# Altium schematic symbol library UserLib.SchLib: 67 symbols
Pins are listed as number, name and electrical type; pins without a type are passive.

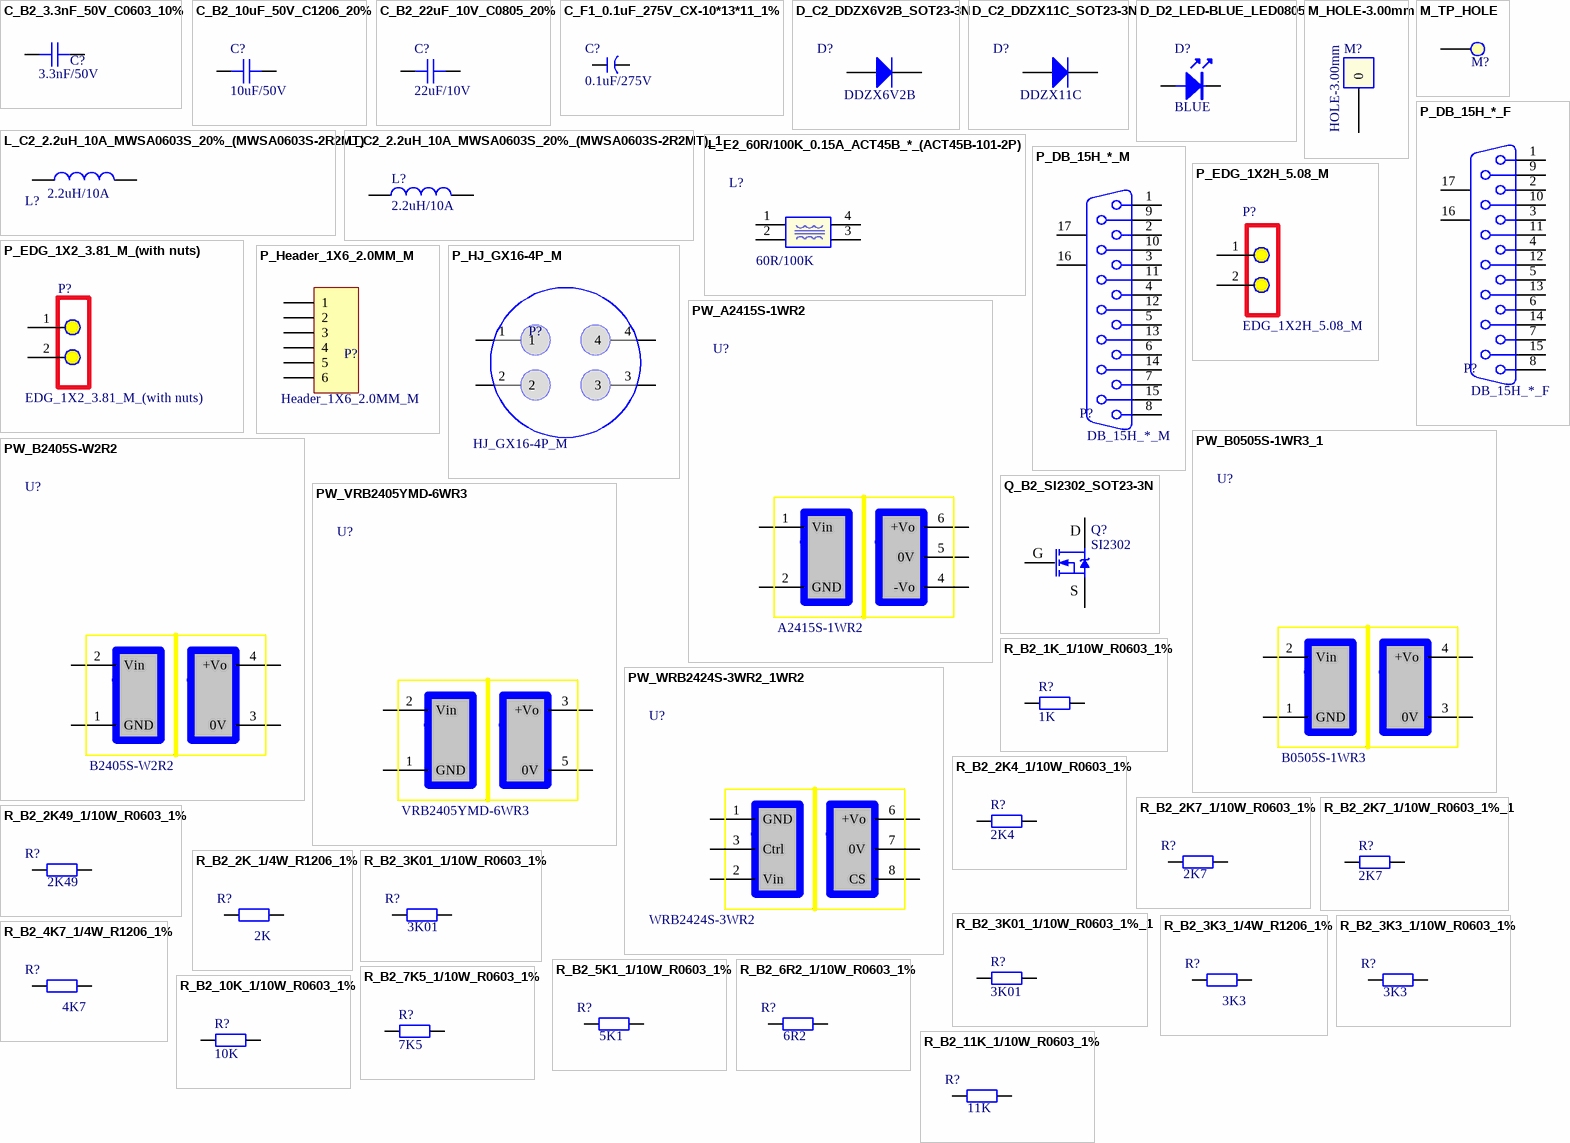
[diagram p0: symbols C_B2_3.3nF_50V_C0603_10% to R_B2_11K_1/10W_R0603_1%]

## C_B2_3.3nF_50V_C0603_10%
designator C?  value 3.3nF/50V  (hidden comment: C_B2_3.3nF_50V_C0603_10%)
footprint C0603 (无极性贴片电容)
pins: 1, 2

## C_B2_10uF_50V_C1206_20%
designator C?  value 10uF/50V  (hidden comment: C_B2_10uF_50V_C1206_20%)
ERP: 01.02.03.005
footprint C1206 (无极性贴片电容)
pins: 1, 2

## C_B2_22uF_10V_C0805_20%
designator C?  value 22uF/10V  (hidden comment: C_B2_22uF_10V_C0805_20%)
X5R; ERP: 01.02.02.037
footprint C0805 (无极性贴片电容)
pins: 1, 2

## C_F1_0.1uF_275V_CX-10*13*11_1%
designator C?  value 0.1uF/275V  (hidden comment: C_F1_0.1uF_275V_CX-10*13*11_1%)
Safety capacitor; ERP: 01.02.06.031
footprint CX-10*13*11 (脚距10mm高13mm厚11mm)
pins: 1 A, 2 K

## D_C2_DDZX6V2B_SOT23-3N
designator D?  value DDZX6V2B  (hidden comment: D_C2_DDZX6V2B_SOT23-3N)
ERP: 01.07.041
footprint SOT23-3N
pins: 1 A, 3 K

## D_C2_DDZX11C_SOT23-3N
designator D?  value DDZX11C  (hidden comment: D_C2_DDZX11C_SOT23-3N)
ERP: 01.07.041A
footprint SOT23-3N
pins: 1 A, 3 K

## D_D2_LED-BLUE_LED0805
designator D?  value BLUE  (hidden comment: D_D2_LED-BLUE_LED0805)
ERP: 01.09.002
footprint LED0805 (1/8W)
pins: 1 A, 2 K

## L_C2_2.2uH_10A_MWSA0603S_20%_(MWSA0603S-2R2MT)
designator L?  value 2.2uH/10A  (hidden comment: L_C2_2.2uH_10A_MWSA0603S_20%_(MWSA0603S-2R2MT))
ERP: 01.03.050
footprint L_MWSA0603S
pins: 1, 2

## L_C2_2.2uH_10A_MWSA0603S_20%_(MWSA0603S-2R2MT)_1
designator L?, comment value 2.2uH/10A  (hidden comment: L_C2_2.2uH_10A_MWSA0603S_20%_(MWSA0603S-2R2MT))
ERP: 01.03.050
footprint L_MWSA0603S
pins: 1, 2

## L_E2_60R/100K_0.15A_ACT45B_*_(ACT45B-101-2P)
designator L?  value 60R/100K  (hidden comment: L_E2_60R/100K_0.15A_ACT45B_*_(ACT45B-101-2P))
ACT45B-101-2P; ERP: 01.03.041
footprint ACT45B
pins: 1, 2, 3, 4

## M_HOLE-3.00mm
designator M?  value HOLE-3.00mm  (hidden comment: M_HOLE-3.00mm)
Note: NC
footprint M3 3.5x6mm (M3螺丝孔，孔3.5mm，焊盘6mm)
pins: 0

## M_TP_HOLE
designator M?  (value not drawn)  (no BOM)
Value: Testpoint; Note: NC
footprint TP-HOLE
pins: 1

## P_DB_15H_*_F
designator P?  value DB_15H_*_F  (hidden comment: P_DB_15H_*_F)
ERP: *
footprint P-DB15-S_A
pins: 1, 2, 3, 4, 5, 6, 7, 8, 9, 10, 11, 12, 13, 14, 15, 16 MH1, 17 MH2

## P_DB_15H_*_M
designator P?  value DB_15H_*_M  (hidden comment: P_DB_15H_*_M)
ERP: *
footprint P-DB15-P_A
pins: 1, 2, 3, 4, 5, 6, 7, 8, 9, 10, 11, 12, 13, 14, 15, 16 MH1, 17 MH2

## P_EDG_1X2_3.81_M_(with nuts)
designator P?  value EDG_1X2_3.81_M_(with nuts)  (hidden comment: P_EDG_1X2_3.81_M_(with nuts))
Straight foot  3.81EDG_(with nuts); ERP: 01.10.276A0
footprint KF2EDGK3.81-2P-(WITH NUTS)
pins: 1, 2

## P_EDG_1X2H_5.08_M
designator P?  value EDG_1X2H_5.08_M  (hidden comment: P_EDG_1X2H_5.08_M)
Bend foot 5.08EDG; ERP: 01.10.199C
footprint KF2EDGK5.08-2P_H
pins: 1, 2

## P_Header_1X6_2.0MM_M
designator P?  value Header_1X6_2.0MM_M  (hidden comment: P_Header_1X6_2.0MM_M)
Header, 6-Pin, 2mm
footprint HDR-1X6-2.0MM
pins: 1, 2, 3, 4, 5, 6

## P_HJ_GX16-4P_M
designator P?  value HJ_GX16-4P_M  (hidden comment: P_HJ_GX16-4P_M)
GX16-4pin; ERP: 01.18.047
footprint HJ_4P (4芯16mm航空插头)
pins: 1, 2, 3, 4

## PW_A2415S-1WR2
designator U?  value A2415S-1WR2  (hidden comment: PW_A2415S-1WR2)
ERP: 01.17.025
footprint A2415S-1WR2
pins: 1 Vin, 2 GND, 4 -Vo, 5 0V, 6 +Vo

## PW_B0505S-1WR3_1
designator U?, comment value B0505S-1WR3  (hidden comment: PW_B0505S-1WR3)
footprint B0505S-1WR3
pins: 1 GND, 2 Vin, 3 0V, 4 +Vo

## PW_B2405S-W2R2
designator U?  value B2405S-W2R2  (hidden comment: PW_B2405S-W2R2)
ERP: 01.17.025A
footprint B2405S-W2R2
pins: 1 GND, 2 Vin, 3 0V, 4 +Vo

## PW_VRB2405YMD-6WR3
designator U?  value VRB2405YMD-6WR3  (hidden comment: PW_VRB2405YMD-6WR3)
ERP: 01.17.025B
footprint VRB2405YMD-6WR3
pins: 1 GND, 2 Vin, 3 +Vo, 5 0V

## PW_WRB2424S-3WR2_1WR2
designator U?  value WRB2424S-3WR2  (hidden comment: PW_WRB2424S-3WR2_1WR2)
footprint WRA2424S-1WR2
pins: 1 GND, 2 Vin, 3 Ctrl, 6 +Vo, 7 0V, 8 CS

## Q_B2_SI2302_SOT23-3N
designator Q?  value SI2302  (hidden comment: Q_B2_SI2302_SOT23-3N)
N-channel FET; ERP: 01.05.01.173
footprint SOT23-3N (3x1.3x1mm(长宽高))
pins: 1 G, 2 S, 3 D

## R_B2_1K_1/10W_R0603_1%
designator R?  value 1K  (hidden comment: R_B2_1K_1/10W_R0603_1%)
ERP: 01.01.02.040
footprint R0603 (Footprint not found)
pins: 1, 2

## R_B2_2K4_1/10W_R0603_1%
designator R?  value 2K4  (hidden comment: R_B2_2K4_1/10W_R0603_1%)
ERP: 01.01.02.086
footprint R0603
pins: 1, 2

## R_B2_2K7_1/10W_R0603_1%
designator R?  value 2K7  (hidden comment: R_B2_2K7_1/10W_R0603_1%)
footprint R0603
pins: 1, 2

## R_B2_2K7_1/10W_R0603_1%_1
designator R?, comment value 2K7  (hidden comment: R_B2_2K7_1/10W_R0603_1%)
ERP: 01.01.02.093
footprint R0603
footprint R0603
pins: 1, 2

## R_B2_2K49_1/10W_R0603_1%
designator R?  value 2K49  (hidden comment: R_B2_2K49_1/10W_R0603_1%)
ERP: 01.01.02.094
footprint R0603
pins: 1, 2

## R_B2_2K_1/4W_R1206_1%
designator R?  value 2K  (hidden comment: R_B2_2K_1/4W_R1206_1%)
footprint R1206
pins: 1, 2

## R_B2_3K01_1/10W_R0603_1%
designator R?  value 3K01  (hidden comment: R_B2_3K01_1/10W_R0603_1%)
ERP: 01.01.02.083
footprint R0603
pins: 1, 2

## R_B2_3K01_1/10W_R0603_1%_1
designator R?, comment value 3K01  (hidden comment: R_B2_3K01_1/10W_R0603_1%)
ERP: 01.01.02.083
footprint R0603
pins: 1, 2

## R_B2_3K3_1/4W_R1206_1%
designator R?  value 3K3  (hidden comment: R_B2_3K3_1/4W_R1206_1%)
ERP: 01.01.03.009
footprint R1206
pins: 1, 2

## R_B2_3K3_1/10W_R0603_1%
designator R?  value 3K3  (hidden comment: R_B2_3K3_1/10W_R0603_1%)
ERP: 01.01.02.072
footprint R0603
pins: 1, 2

## R_B2_4K7_1/4W_R1206_1%
designator R?  value 4K7  (hidden comment: R_B2_4K7_1/4W_R1206_1%)
ERP: 01.01.03.010
footprint R1206
pins: 1, 2

## R_B2_5K1_1/10W_R0603_1%
designator R?  value 5K1  (hidden comment: R_B2_5K1_1/10W_R0603_1%)
ERP: 01.01.02.073
footprint R0603
pins: 1, 2

## R_B2_6R2_1/10W_R0603_1%
designator R?  value 6R2  (hidden comment: R_B2_6R2_1/10W_R0603_1%)
ERP: 01.01.02.074
footprint R0603
pins: 1, 2

## R_B2_7K5_1/10W_R0603_1%
designator R?  value 7K5  (hidden comment: R_B2_7K5_1/10W_R0603_1%)
ERP: 01.01.02.085
footprint R0603
pins: 1, 2

## R_B2_10K_1/10W_R0603_1%
designator R?  value 10K  (hidden comment: R_B2_10K_1/10W_R0603_1%)
ERP: 01.01.02.030
footprint R0603
pins: 1, 2

## R_B2_11K_1/10W_R0603_1%
designator R?  value 11K  (hidden comment: R_B2_11K_1/10W_R0603_1%)
ERP: 01.01.02.072A
footprint R0603
pins: 1, 2

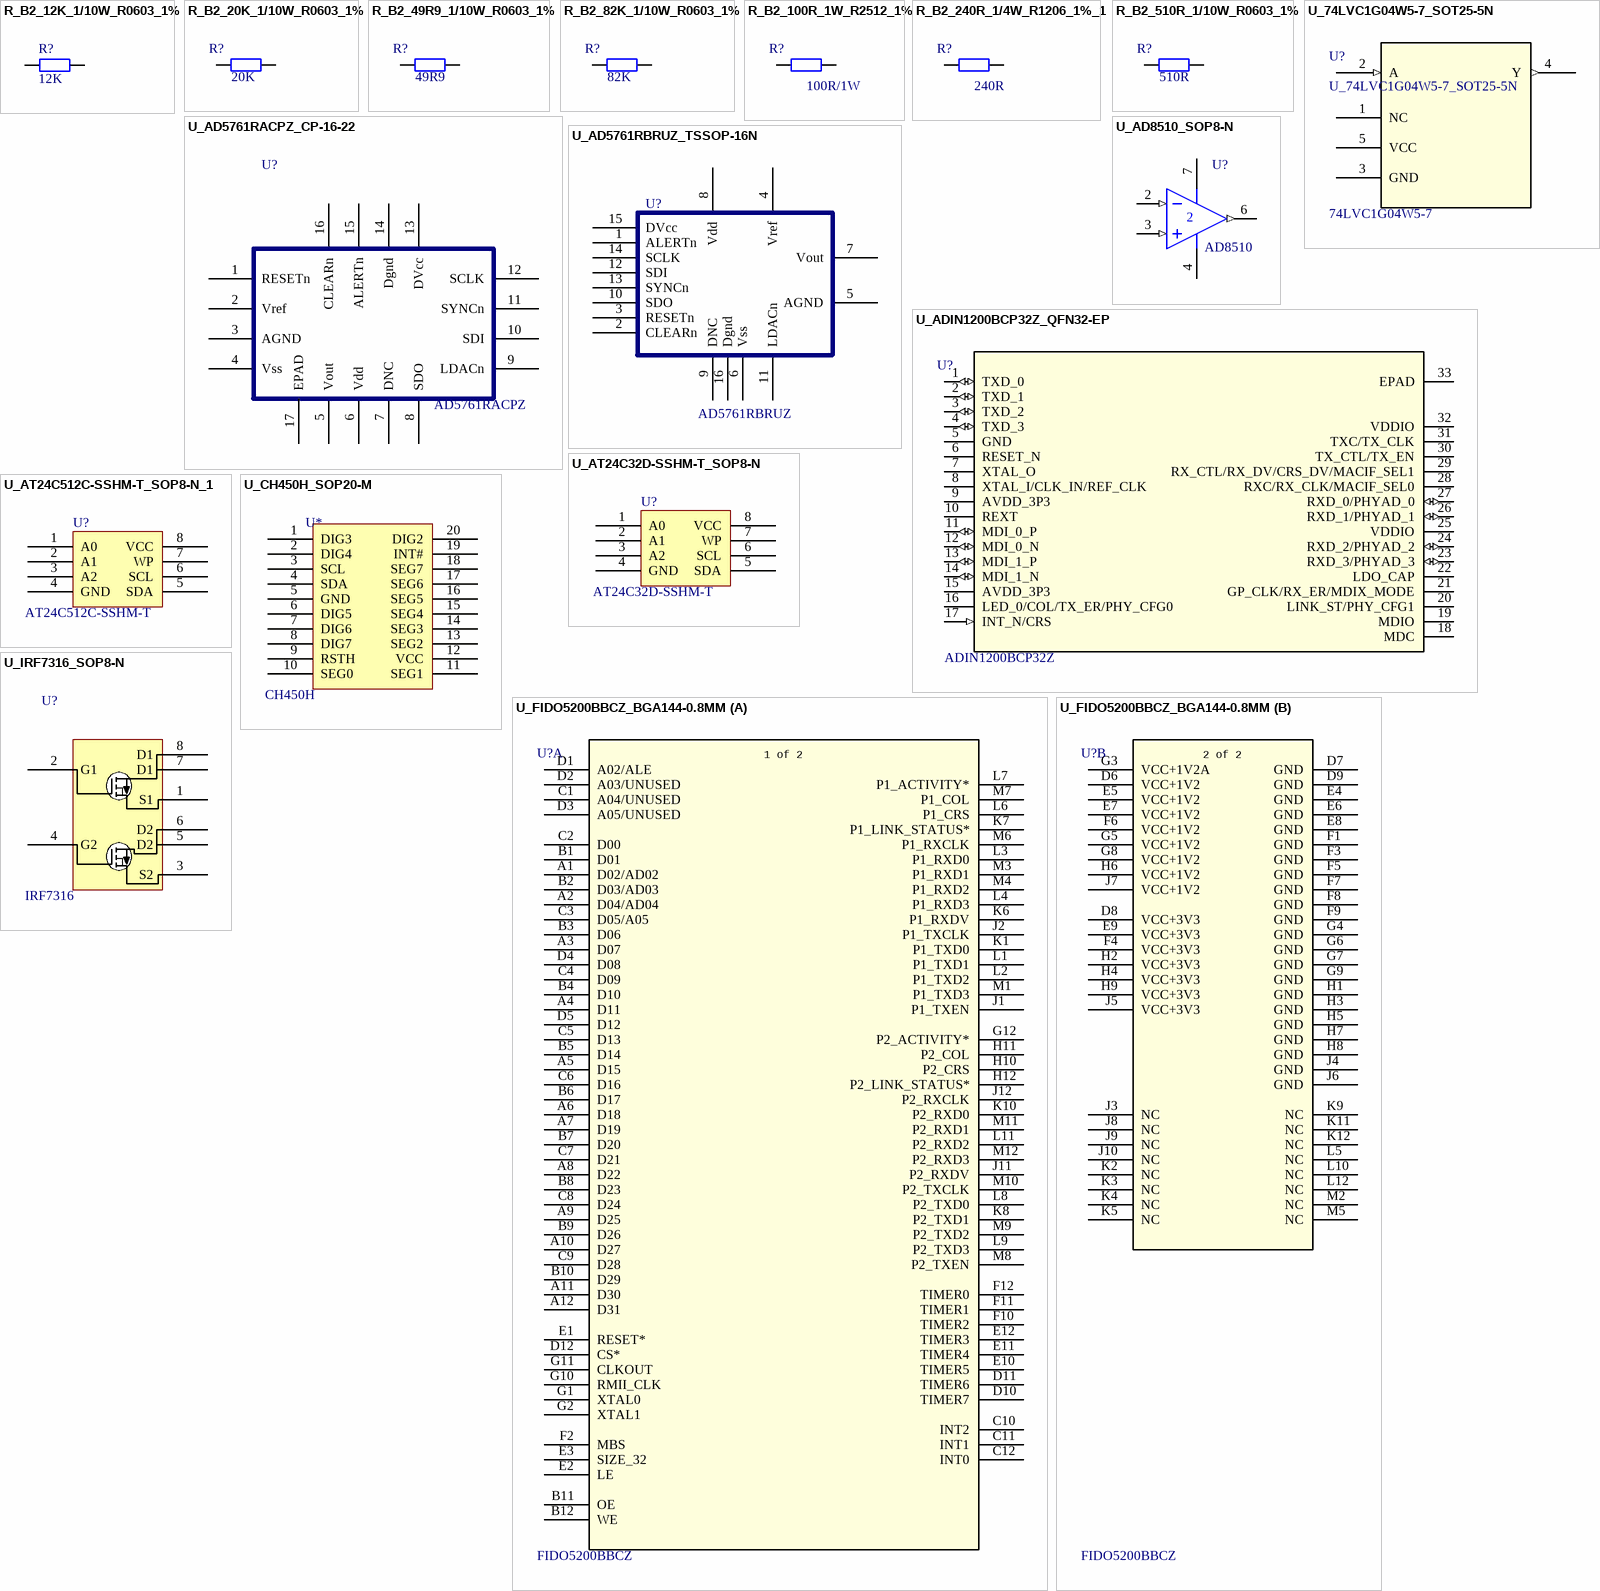
[diagram p1: symbols R_B2_12K_1/10W_R0603_1% to U_IRF7316_SOP8-N]

## R_B2_12K_1/10W_R0603_1%
designator R?  value 12K  (hidden comment: R_B2_12K_1/10W_R0603_1%)
ERP: 01.01.02.081
footprint R0603
pins: 1, 2

## R_B2_20K_1/10W_R0603_1%
designator R?  value 20K  (hidden comment: R_B2_20K_1/10W_R0603_1%)
footprint R0603
pins: 1, 2

## R_B2_49R9_1/10W_R0603_1%
designator R?  value 49R9  (hidden comment: R_B2_49R9_1/10W_R0603_1%)
footprint R0603
pins: 1, 2

## R_B2_82K_1/10W_R0603_1%
designator R?  value 82K  (hidden comment: R_B2_82K_1/10W_R0603_1%)
ERP: 01.01.02.073A
footprint R0603
pins: 1, 2

## R_B2_100R_1W_R2512_1%
designator R?  value 100R/1W  (hidden comment: R_B2_100R_1W_R2512_1%)
footprint R2512
pins: 1, 2

## R_B2_240R_1/4W_R1206_1%_1
designator R?, comment value 240R  (hidden comment: R_B2_240R_1/4W_R1206_1%)
footprint R1206
pins: 1, 2

## R_B2_510R_1/10W_R0603_1%
designator R?  value 510R  (hidden comment: R_B2_510R_1/10W_R0603_1%)
ERP: 01.01.02.074A
footprint R0603
pins: 1, 2

## U_74LVC1G04W5-7_SOT25-5N
designator U?  value 74LVC1G04W5-7
No Description Available
footprint SOT25-5N
pins: 1 NC, 2 A (in), 3 GND (power), 4 Y (out), 5 VCC (power)

## U_AD5761RACPZ_CP-16-22
designator U?  value AD5761RACPZ  (hidden comment: U_AD5761RACPZ_CP-16-22)
footprint CP-16-22_N (QFN, 16-Leads, Body 3x3mm, Pitch 0.5mm, Thermal Pad 1.75x1.75mm, IPC Medium Density)
pins: 1 RESETn, 2 Vref, 3 AGND, 4 Vss, 5 Vout, 6 Vdd, 7 DNC, 8 SDO, 9 LDACn, 10 SDI, 11 SYNCn, 12 SCLK, 13 DVcc, 14 Dgnd, 15 ALERTn, 16 CLEARn, 17 EPAD

## U_AD5761RBRUZ_TSSOP-16N
designator U?  value AD5761RBRUZ  (hidden comment: U_AD5761RBRUZ_TSSOP-16N)
ERP: 01.05.01.141
footprint TSSOP-16N-shrink
pins: 1 ALERTn, 2 CLEARn, 3 RESETn, 4 Vref, 5 AGND, 6 Vss, 7 Vout, 8 Vdd, 9 DNC, 10 SDO, 11 LDACn, 12 SDI, 13 SYNCn, 14 SCLK, 15 DVcc, 16 Dgnd

## U_AD8510_SOP8-N
designator U?  value AD8510  (hidden comment: U_AD8510_SOP8-N)
ERP: 01.18.056
footprint SOP8-N (5*6*1.8mm（长宽高）)
pins: 2 IN- (in), 3 IN+ (in), 4 V- (power), 6 OUT (out), 7 V+ (power)

## U_ADIN1200BCP32Z_QFN32-EP
designator U?  value ADIN1200BCP32Z  (hidden comment: U_ADIN1200BCP32Z_QFN32-EP)
ERP: 01.05.01.252
footprint QFN-32-EP
pins: 1 TXD_0 (io), 2 TXD_1 (io), 3 TXD_2 (io), 4 TXD_3 (io), 5 GND, 6 RESET_N, 7 XTAL_O, 8 XTAL_I/CLK_IN/REF_CLK, 9 AVDD_3P3 (power), 10 REXT, 11 MDI_0_P (io), 12 MDI_0_N (io), 13 MDI_1_P (io), 14 MDI_1_N (io), 15 AVDD_3P3 (power), 16 LED_0/COL/TX_ER/PHY_CFG0, 17 INT_N/CRS (in), 18 MDC, 19 MDIO, 20 LINK_ST/PHY_CFG1, 21 GP_CLK/RX_ER/MDIX_MODE, 22 LDO_CAP, 23 RXD_3/PHYAD_3 (io), 24 RXD_2/PHYAD_2 (io), 25 VDDIO (power), 26 RXD_1/PHYAD_1 (io), 27 RXD_0/PHYAD_0 (io), 28 RXC/RX_CLK/MACIF_SEL0, 29 RX_CTL/RX_DV/CRS_DV/MACIF_SEL1, 30 TX_CTL/TX_EN, 31 TXC/TX_CLK, 32 VDDIO (power), 33 EPAD

## U_AT24C32D-SSHM-T_SOP8-N
designator U?  value AT24C32D-SSHM-T  (hidden comment: U_AT24C32D-SSHM-T_SOP8-N)
ERP: 01.05.01.225
footprint SOP8-N
pins: 1 A0, 2 A1, 3 A2, 4 GND, 5 SDA, 6 SCL, 7 WP, 8 VCC

## U_AT24C512C-SSHM-T_SOP8-N_1
designator U?, comment value AT24C512C-SSHM-T  (hidden comment: U_AT24C512C-SSHM-T_SOP8-N)
footprint SOP8-N
pins: 1 A0, 2 A1, 3 A2, 4 GND, 5 SDA, 6 SCL, 7 WP, 8 VCC

## U_CH450H_SOP20-M
designator U*  value CH450H  (hidden comment: U_CH450H_SOP20-M)
ERP: 01.05.01.201
footprint SOP20-M
pins: 1 DIG3, 2 DIG4, 3 SCL, 4 SDA, 5 GND, 6 DIG5, 7 DIG6, 8 DIG7, 9 RSTH, 10 SEG0, 11 SEG1, 12 VCC, 13 SEG2, 14 SEG3, 15 SEG4, 16 SEG5, 17 SEG6, 18 SEG7, 19 INT#, 20 DIG2

## U_FIDO5200BBCZ_BGA144-0.8MM
designator U?  value FIDO5200BBCZ  (hidden comment: U_FIDO5200BBCZ_BGA144-0.8MM)
ERP: 01.05.01.251
footprint BGA144-0.8MM
part A pins: A1 D02/AD02, A2 D04/AD04, A3 D07, A4 D11, A5 D15, A6 D18, A7 D19, A8 D22, A9 D25, A10 D27, A11 D30, A12 D31, B1 D01, B2 D03/AD03, B3 D06, B4 D10, B5 D14, B6 D17, B7 D20, B8 D23, B9 D26, B10 D29, B11 OE, B12 WE, C1 A04/UNUSED, C2 D00, C3 D05/A05, C4 D09, C5 D13, C6 D16, C7 D21, C8 D24, C9 D28, C10 INT2, C11 INT1, C12 INT0, D1 A02/ALE, D2 A03/UNUSED, D3 A05/UNUSED, D4 D08, D5 D12, D10 TIMER7, D11 TIMER6, D12 CS*, E1 RESET*, E2 LE, E3 SIZE_32, E10 TIMER5, E11 TIMER4, E12 TIMER3, F2 MBS, F10 TIMER2, F11 TIMER1, F12 TIMER0, G1 XTAL0, G2 XTAL1, G10 RMII_CLK, G11 CLKOUT, G12 P2_ACTIVITY*, H10 P2_CRS, H11 P2_COL, H12 P2_LINK_STATUS*, J1 P1_TXEN, J2 P1_TXCLK, J11 P2_RXDV, J12 P2_RXCLK, K1 P1_TXD0, K6 P1_RXDV, K7 P1_LINK_STATUS*, K8 P2_TXD1, K10 P2_RXD0, L1 P1_TXD1, L2 P1_TXD2, L3 P1_RXD0, L4 P1_RXD3, L6 P1_CRS, L7 P1_ACTIVITY*, L8 P2_TXD0, L9 P2_TXD3, L11 P2_RXD2, M1 P1_TXD3, M3 P1_RXD1, M4 P1_RXD2, M6 P1_RXCLK, M7 P1_COL, M8 P2_TXEN, M9 P2_TXD2, M10 P2_TXCLK, M11 P2_RXD1, M12 P2_RXD3
part B pins: D6 VCC+1V2, D7 GND, D8 VCC+3V3, D9 GND, E4 GND, E5 VCC+1V2, E6 GND, E7 VCC+1V2, E8 GND, E9 VCC+3V3, F1 GND, F3 GND, F4 VCC+3V3, F5 GND, F6 VCC+1V2, F7 GND, F8 GND, F9 GND, G3 VCC+1V2A, G4 GND, G5 VCC+1V2, G6 GND, G7 GND, G8 VCC+1V2, G9 GND, H1 GND, H2 VCC+3V3, H3 GND, H4 VCC+3V3, H5 GND, H6 VCC+1V2, H7 GND, H8 GND, H9 VCC+3V3, J3 NC, J4 GND, J5 VCC+3V3, J6 GND, J7 VCC+1V2, J8 NC, J9 NC, J10 NC, K2 NC, K3 NC, K4 NC, K5 NC, K9 NC, K11 NC, K12 NC, L5 NC, L10 NC, L12 NC, M2 NC, M5 NC
part A text: 1 of 2
part B text: 2 of 2

## U_IRF7316_SOP8-N
designator U?  value IRF7316  (hidden comment: U_IRF7316_SOP8-N)
ERP: 01.05.01.204
footprint SOP8-N (5*6*1.8mm（长宽高）)
pins: 1 S1, 2 G1, 3 S2, 4 G2, 5 D2, 6 D2, 7 D1, 8 D1

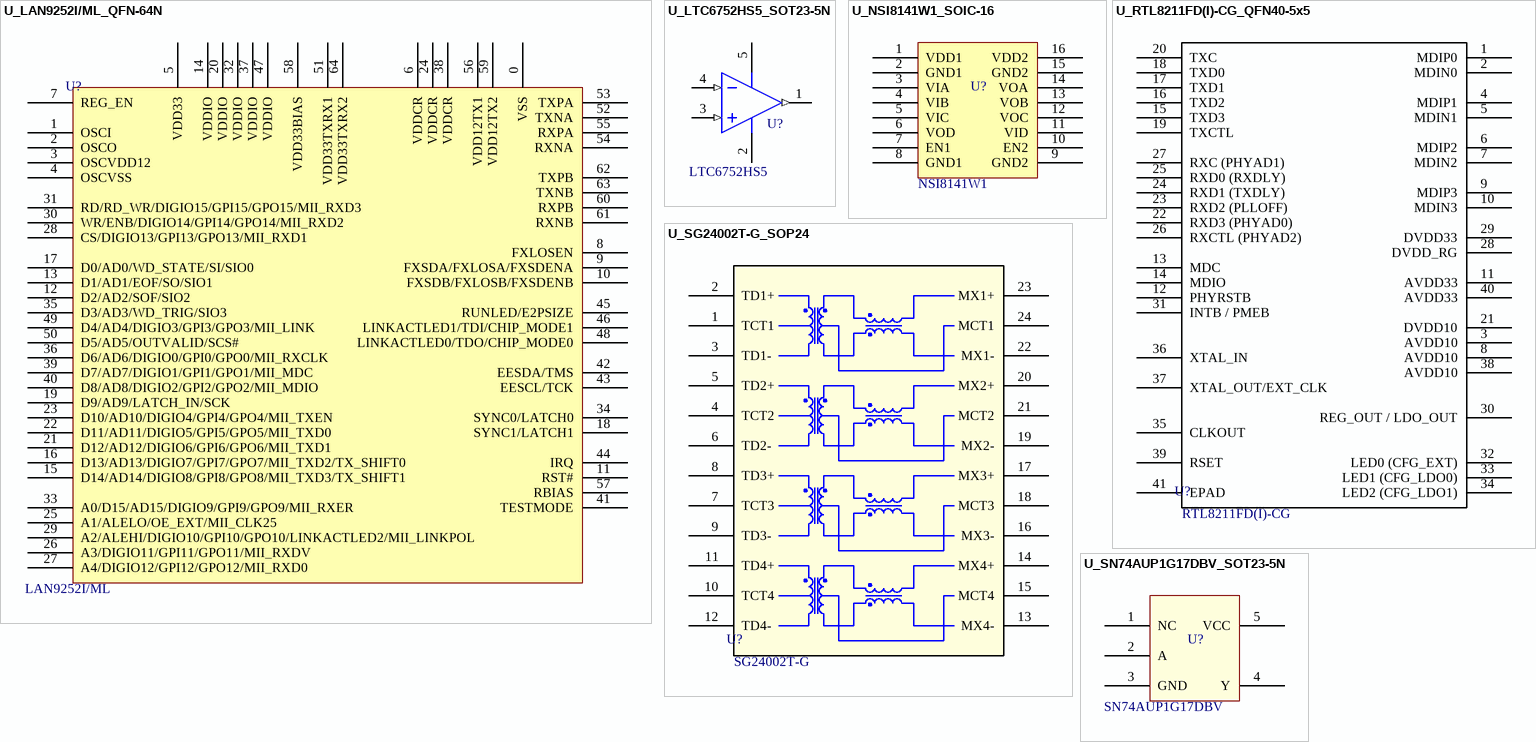
[diagram p2: symbols U_LAN9252I/ML_QFN-64N to U_SN74AUP1G17DBV_SOT23-5N]

## U_LAN9252I/ML_QFN-64N
designator U?  value LAN9252I/ML  (hidden comment: U_LAN9252I/ML_QFN-64N)
ERP: 01.05.01.226
footprint QFN-64_9x9_EP6SQ (QFN, 64-Leads, Body 9.00x9.00mm, Pitch 0.50mm, Thermal Pad 6.00x6.00mm, IPC Medium Density)
pins: 0 VSS, 1 OSCI, 2 OSCO, 3 OSCVDD12, 4 OSCVSS, 5 VDD33, 6 VDDCR, 7 REG_EN, 8 FXLOSEN, 9 FXSDA/FXLOSA/FXSDENA, 10 FXSDB/FXLOSB/FXSDENB, 11 RST#, 12 D2/AD2/SOF/SIO2, 13 D1/AD1/EOF/SO/SIO1, 14 VDDIO, 15 D14/AD14/DIGIO8/GPI8/GPO8/MII_TXD3/TX_SHIFT1, 16 D13/AD13/DIGIO7/GPI7/GPO7/MII_TXD2/TX_SHIFT0, 17 D0/AD0/WD_STATE/SI/SIO0, 18 SYNC1/LATCH1, 19 D9/AD9/LATCH_IN/SCK, 20 VDDIO, 21 D12/AD12/DIGIO6/GPI6/GPO6/MII_TXD1, 22 D11/AD11/DIGIO5/GPI5/GPO5/MII_TXD0, 23 D10/AD10/DIGIO4/GPI4/GPO4/MII_TXEN, 24 VDDCR, 25 A1/ALELO/OE_EXT/MII_CLK25, 26 A3/DIGIO11/GPI11/GPO11/MII_RXDV, 27 A4/DIGIO12/GPI12/GPO12/MII_RXD0, 28 CS/DIGIO13/GPI13/GPO13/MII_RXD1, 29 A2/ALEHI/DIGIO10/GPI10/GPO10/LINKACTLED2/MII_LINKPOL, 30 WR/ENB/DIGIO14/GPI14/GPO14/MII_RXD2, 31 RD/RD_WR/DIGIO15/GPI15/GPO15/MII_RXD3, 32 VDDIO, 33 A0/D15/AD15/DIGIO9/GPI9/GPO9/MII_RXER, 34 SYNC0/LATCH0, 35 D3/AD3/WD_TRIG/SIO3, 36 D6/AD6/DIGIO0/GPI0/GPO0/MII_RXCLK, 37 VDDIO, 38 VDDCR, 39 D7/AD7/DIGIO1/GPI1/GPO1/MII_MDC, 40 D8/AD8/DIGIO2/GPI2/GPO2/MII_MDIO, 41 TESTMODE, 42 EESDA/TMS, 43 EESCL/TCK, 44 IRQ, 45 RUNLED/E2PSIZE, 46 LINKACTLED1/TDI/CHIP_MODE1, 47 VDDIO, 48 LINKACTLED0/TDO/CHIP_MODE0, 49 D4/AD4/DIGIO3/GPI3/GPO3/MII_LINK, 50 D5/AD5/OUTVALID/SCS#, 51 VDD33TXRX1, 52 TXNA, 53 TXPA, 54 RXNA, 55 RXPA, 56 VDD12TX1, 57 RBIAS, 58 VDD33BIAS, 59 VDD12TX2, 60 RXPB, 61 RXNB, 62 TXPB, 63 TXNB, 64 VDD33TXRX2

## U_LTC6752HS5_SOT23-5N
designator U?  value LTC6752HS5  (hidden comment: U_LTC6752HS5_SOT23-5N)
ERP: 01.05.01.210
footprint SOT23-5N (3x1.6x1.1mm(长宽高))
pins: 1 OUT (out), 2 V- (power), 3 IN+ (in), 4 IN- (in), 5 V+ (power)

## U_NSI8141W1_SOIC-16
designator U?  value NSI8141W1  (hidden comment: U_NSI8141W1_SOIC-16)
High Reliability Quad-Channel Digital Isolators; ERP: 01.05.01.235
footprint SOIC-16
pins: 1 VDD1, 2 GND1, 3 VIA, 4 VIB, 5 VIC, 6 VOD, 7 EN1, 8 GND1, 9 GND2, 10 EN2, 11 VID, 12 VOC, 13 VOB, 14 VOA, 15 GND2, 16 VDD2

## U_RTL8211FD(I)-CG_QFN40-5x5
designator U?  value RTL8211FD(I)-CG  (hidden comment: U_RTL8211FD(I)-CG_QFN40-5x5)
INTEGRATED 10/100/1000M ETHERNET PRECISION TRANSCEIVER; ERP: *
footprint QFN40-5x5
pins: 1 MDIP0, 2 MDIN0, 3 AVDD10, 4 MDIP1, 5 MDIN1, 6 MDIP2, 7 MDIN2, 8 AVDD10, 9 MDIP3, 10 MDIN3, 11 AVDD33, 12 PHYRSTB, 13 MDC, 14 MDIO, 15 TXD3, 16 TXD2, 17 TXD1, 18 TXD0, 19 TXCTL, 20 TXC, 21 DVDD10, 22 RXD3 (PHYAD0), 23 RXD2 (PLLOFF), 24 RXD1 (TXDLY), 25 RXD0 (RXDLY), 26 RXCTL (PHYAD2), 27 RXC (PHYAD1), 28 DVDD_RG, 29 DVDD33, 30 REG_OUT / LDO_OUT, 31 INTB / PMEB, 32 LED0 (CFG_EXT), 33 LED1 (CFG_LDO0), 34 LED2 (CFG_LDO1), 35 CLKOUT, 36 XTAL_IN, 37 XTAL_OUT/EXT_CLK, 38 AVDD10, 39 RSET, 40 AVDD33, 41 EPAD

## U_SG24002T-G_SOP24
designator U?  value SG24002T-G  (hidden comment: U_SG24002T-G_SOP24)
ERP: *
footprint SOP-24 (Network port transformer)
pins: 1 TCT1, 2 TD1+, 3 TD1-, 4 TCT2, 5 TD2+, 6 TD2-, 7 TCT3, 8 TD3+, 9 TD3-, 10 TCT4, 11 TD4+, 12 TD4-, 13 MX4-, 14 MX4+, 15 MCT4, 16 MX3-, 17 MX3+, 18 MCT3, 19 MX2-, 20 MX2+, 21 MCT2, 22 MX1-, 23 MX1+, 24 MCT1

## U_SN74AUP1G17DBV_SOT23-5N
designator U?  value SN74AUP1G17DBV  (hidden comment: U_SN74AUP1G17DBV_SOT23-5N)
ERP: 01.05.01.253
footprint SOT23-5N
pins: 1 NC, 2 A, 3 GND, 4 Y, 5 VCC

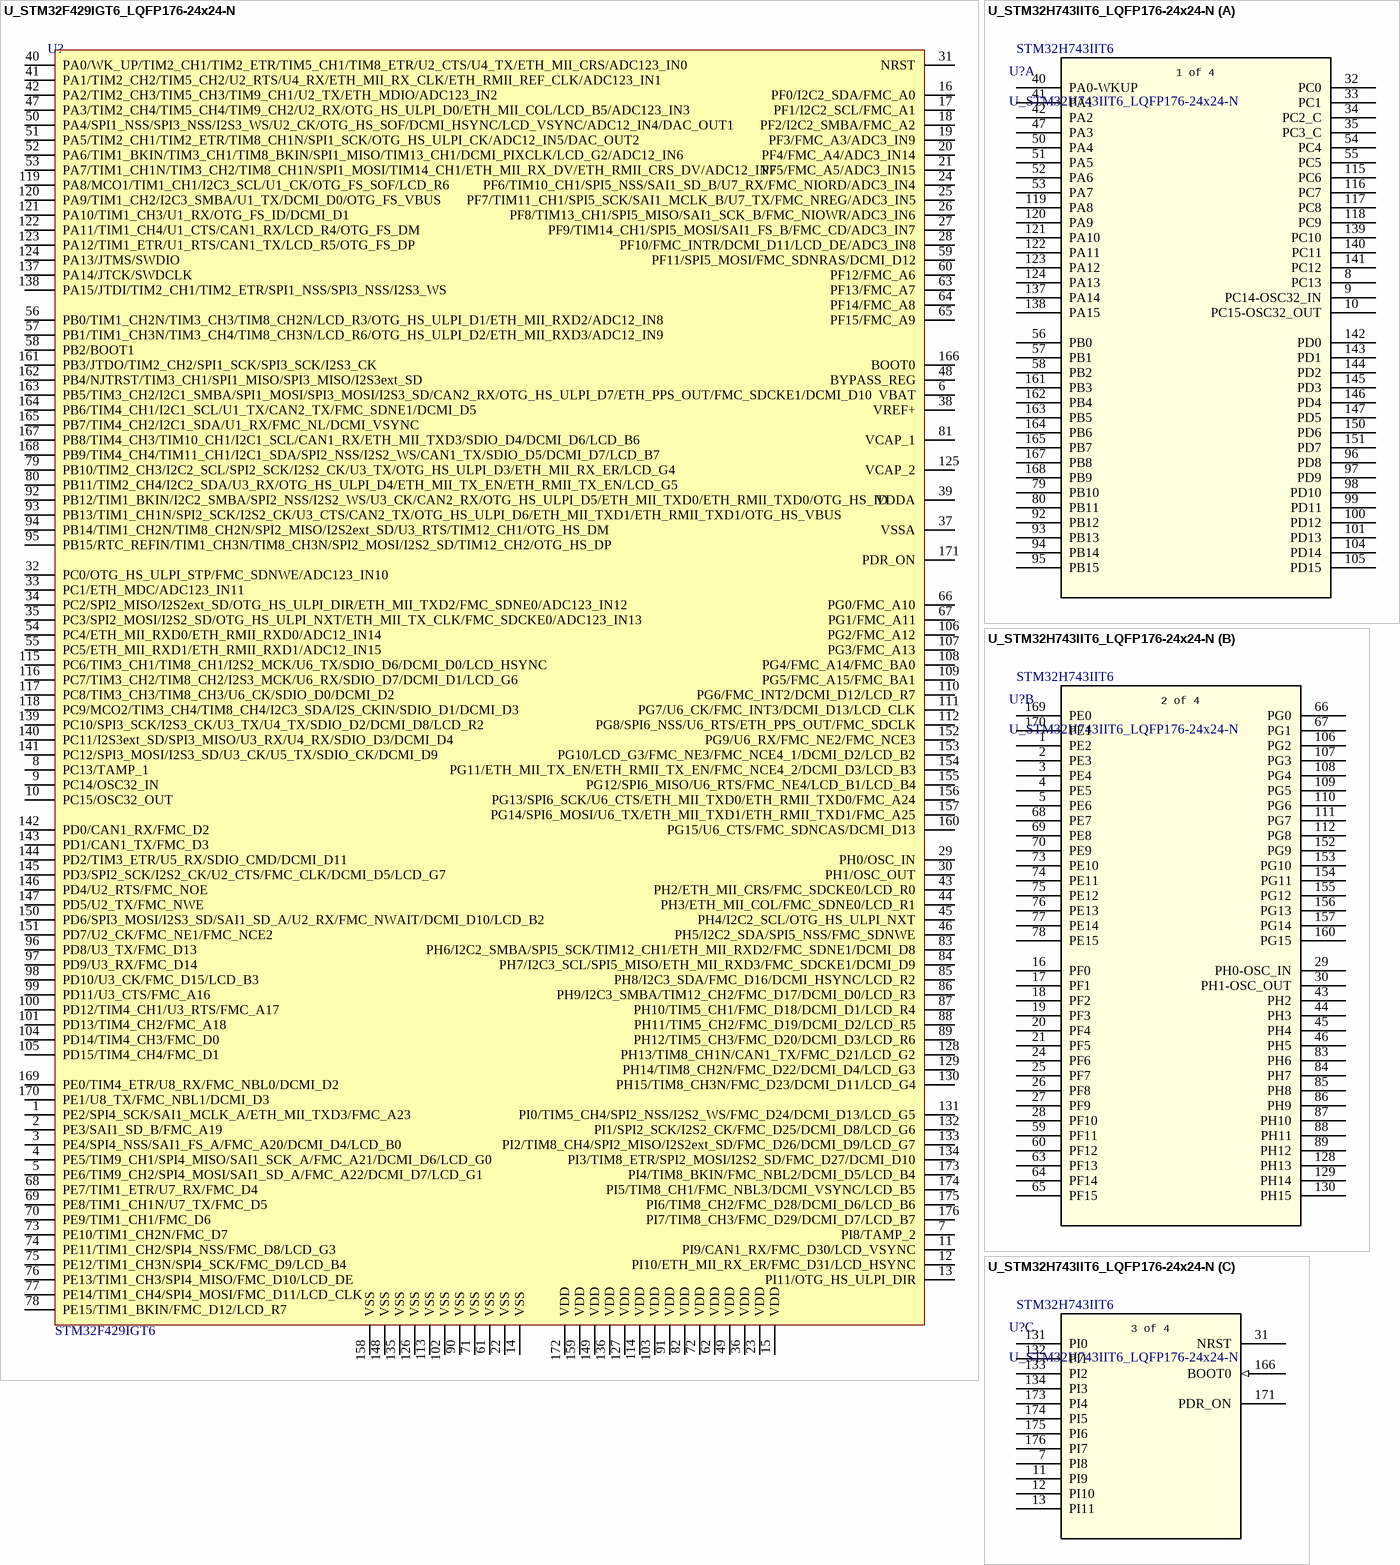
[diagram p3: symbols U_STM32F429IGT6_LQFP176-24x24-N to U_STM32H743IIT6_LQFP176-24x24-N]

## U_STM32F429IGT6_LQFP176-24x24-N
designator U?  value STM32F429IGT6  (hidden comment: U_STM32F429IGT6_LQFP176-24x24-N)
STM32F429IGT6; ERP: 01.05.01.145
footprint LQFP176-24x24-N (176脚，体宽24x24mm，脚距0.5mm)
pins: 1 PE2/SPI4_SCK/SAI1_MCLK_A/ETH_MII_TXD3/FMC_A23, 2 PE3/SAI1_SD_B/FMC_A19, 3 PE4/SPI4_NSS/SAI1_FS_A/FMC_A20/DCMI_D4/LCD_B0, 4 PE5/TIM9_CH1/SPI4_MISO/SAI1_SCK_A/FMC_A21/DCMI_D6/LCD_G0, 5 PE6/TIM9_CH2/SPI4_MOSI/SAI1_SD_A/FMC_A22/DCMI_D7/LCD_G1, 6 VBAT, 7 PI8/TAMP_2, 8 PC13/TAMP_1, 9 PC14/OSC32_IN, 10 PC15/OSC32_OUT, 11 PI9/CAN1_RX/FMC_D30/LCD_VSYNC, 12 PI10/ETH_MII_RX_ER/FMC_D31/LCD_HSYNC, 13 PI11/OTG_HS_ULPI_DIR, 14 VSS, 15 VDD, 16 PF0/I2C2_SDA/FMC_A0, 17 PF1/I2C2_SCL/FMC_A1, 18 PF2/I2C2_SMBA/FMC_A2, 19 PF3/FMC_A3/ADC3_IN9, 20 PF4/FMC_A4/ADC3_IN14, 21 PF5/FMC_A5/ADC3_IN15, 22 VSS, 23 VDD, 24 PF6/TIM10_CH1/SPI5_NSS/SAI1_SD_B/U7_RX/FMC_NIORD/ADC3_IN4, 25 PF7/TIM11_CH1/SPI5_SCK/SAI1_MCLK_B/U7_TX/FMC_NREG/ADC3_IN5, 26 PF8/TIM13_CH1/SPI5_MISO/SAI1_SCK_B/FMC_NIOWR/ADC3_IN6, 27 PF9/TIM14_CH1/SPI5_MOSI/SAI1_FS_B/FMC_CD/ADC3_IN7, 28 PF10/FMC_INTR/DCMI_D11/LCD_DE/ADC3_IN8, 29 PH0/OSC_IN, 30 PH1/OSC_OUT, 31 NRST, 32 PC0/OTG_HS_ULPI_STP/FMC_SDNWE/ADC123_IN10, 33 PC1/ETH_MDC/ADC123_IN11, 34 PC2/SPI2_MISO/I2S2ext_SD/OTG_HS_ULPI_DIR/ETH_MII_TXD2/FMC_SDNE0/ADC123_IN12, 35 PC3/SPI2_MOSI/I2S2_SD/OTG_HS_ULPI_NXT/ETH_MII_TX_CLK/FMC_SDCKE0/ADC123_IN13, 36 VDD, 37 VSSA, 38 VREF+, 39 VDDA, 40 PA0/WK_UP/TIM2_CH1/TIM2_ETR/TIM5_CH1/TIM8_ETR/U2_CTS/U4_TX/ETH_MII_CRS/ADC123_IN0, 41 PA1/TIM2_CH2/TIM5_CH2/U2_RTS/U4_RX/ETH_MII_RX_CLK/ETH_RMII_REF_CLK/ADC123_IN1, 42 PA2/TIM2_CH3/TIM5_CH3/TIM9_CH1/U2_TX/ETH_MDIO/ADC123_IN2, 43 PH2/ETH_MII_CRS/FMC_SDCKE0/LCD_R0, 44 PH3/ETH_MII_COL/FMC_SDNE0/LCD_R1, 45 PH4/I2C2_SCL/OTG_HS_ULPI_NXT, 46 PH5/I2C2_SDA/SPI5_NSS/FMC_SDNWE, 47 PA3/TIM2_CH4/TIM5_CH4/TIM9_CH2/U2_RX/OTG_HS_ULPI_D0/ETH_MII_COL/LCD_B5/ADC123_IN3, 48 BYPASS_REG, 49 VDD, 50 PA4/SPI1_NSS/SPI3_NSS/I2S3_WS/U2_CK/OTG_HS_SOF/DCMI_HSYNC/LCD_VSYNC/ADC12_IN4/DAC_OUT1, 51 PA5/TIM2_CH1/TIM2_ETR/TIM8_CH1N/SPI1_SCK/OTG_HS_ULPI_CK/ADC12_IN5/DAC_OUT2, 52 PA6/TIM1_BKIN/TIM3_CH1/TIM8_BKIN/SPI1_MISO/TIM13_CH1/DCMI_PIXCLK/LCD_G2/ADC12_IN6, 53 PA7/TIM1_CH1N/TIM3_CH2/TIM8_CH1N/SPI1_MOSI/TIM14_CH1/ETH_MII_RX_DV/ETH_RMII_CRS_DV/ADC12_IN7, 54 PC4/ETH_MII_RXD0/ETH_RMII_RXD0/ADC12_IN14, 55 PC5/ETH_MII_RXD1/ETH_RMII_RXD1/ADC12_IN15, 56 PB0/TIM1_CH2N/TIM3_CH3/TIM8_CH2N/LCD_R3/OTG_HS_ULPI_D1/ETH_MII_RXD2/ADC12_IN8, 57 PB1/TIM1_CH3N/TIM3_CH4/TIM8_CH3N/LCD_R6/OTG_HS_ULPI_D2/ETH_MII_RXD3/ADC12_IN9, 58 PB2/BOOT1, 59 PF11/SPI5_MOSI/FMC_SDNRAS/DCMI_D12, 60 PF12/FMC_A6, 61 VSS, 62 VDD, 63 PF13/FMC_A7, 64 PF14/FMC_A8, 65 PF15/FMC_A9, 66 PG0/FMC_A10, 67 PG1/FMC_A11, 68 PE7/TIM1_ETR/U7_RX/FMC_D4, 69 PE8/TIM1_CH1N/U7_TX/FMC_D5, 70 PE9/TIM1_CH1/FMC_D6, 71 VSS, 72 VDD, 73 PE10/TIM1_CH2N/FMC_D7, 74 PE11/TIM1_CH2/SPI4_NSS/FMC_D8/LCD_G3, 75 PE12/TIM1_CH3N/SPI4_SCK/FMC_D9/LCD_B4, 76 PE13/TIM1_CH3/SPI4_MISO/FMC_D10/LCD_DE, 77 PE14/TIM1_CH4/SPI4_MOSI/FMC_D11/LCD_CLK, 78 PE15/TIM1_BKIN/FMC_D12/LCD_R7, 79 PB10/TIM2_CH3/I2C2_SCL/SPI2_SCK/I2S2_CK/U3_TX/OTG_HS_ULPI_D3/ETH_MII_RX_ER/LCD_G4, 80 PB11/TIM2_CH4/I2C2_SDA/U3_RX/OTG_HS_ULPI_D4/ETH_MII_TX_EN/ETH_RMII_TX_EN/LCD_G5, 81 VCAP_1, 82 VDD, 83 PH6/I2C2_SMBA/SPI5_SCK/TIM12_CH1/ETH_MII_RXD2/FMC_SDNE1/DCMI_D8, 84 PH7/I2C3_SCL/SPI5_MISO/ETH_MII_RXD3/FMC_SDCKE1/DCMI_D9, 85 PH8/I2C3_SDA/FMC_D16/DCMI_HSYNC/LCD_R2, 86 PH9/I2C3_SMBA/TIM12_CH2/FMC_D17/DCMI_D0/LCD_R3, 87 PH10/TIM5_CH1/FMC_D18/DCMI_D1/LCD_R4, 88 PH11/TIM5_CH2/FMC_D19/DCMI_D2/LCD_R5, 89 PH12/TIM5_CH3/FMC_D20/DCMI_D3/LCD_R6, 90 VSS, 91 VDD, 92 PB12/TIM1_BKIN/I2C2_SMBA/SPI2_NSS/I2S2_WS/U3_CK/CAN2_RX/OTG_HS_ULPI_D5/ETH_MII_TXD0/ETH_RMII_TXD0/OTG_HS_ID, 93 PB13/TIM1_CH1N/SPI2_SCK/I2S2_CK/U3_CTS/CAN2_TX/OTG_HS_ULPI_D6/ETH_MII_TXD1/ETH_RMII_TXD1/OTG_HS_VBUS, 94 PB14/TIM1_CH2N/TIM8_CH2N/SPI2_MISO/I2S2ext_SD/U3_RTS/TIM12_CH1/OTG_HS_DM, 95 PB15/RTC_REFIN/TIM1_CH3N/TIM8_CH3N/SPI2_MOSI/I2S2_SD/TIM12_CH2/OTG_HS_DP, 96 PD8/U3_TX/FMC_D13, 97 PD9/U3_RX/FMC_D14, 98 PD10/U3_CK/FMC_D15/LCD_B3, 99 PD11/U3_CTS/FMC_A16, 100 PD12/TIM4_CH1/U3_RTS/FMC_A17, 101 PD13/TIM4_CH2/FMC_A18, 102 VSS, 103 VDD, 104 PD14/TIM4_CH3/FMC_D0, 105 PD15/TIM4_CH4/FMC_D1, 106 PG2/FMC_A12, 107 PG3/FMC_A13, 108 PG4/FMC_A14/FMC_BA0, 109 PG5/FMC_A15/FMC_BA1, 110 PG6/FMC_INT2/DCMI_D12/LCD_R7, 111 PG7/U6_CK/FMC_INT3/DCMI_D13/LCD_CLK, 112 PG8/SPI6_NSS/U6_RTS/ETH_PPS_OUT/FMC_SDCLK, 113 VSS, 114 VDD, 115 PC6/TIM3_CH1/TIM8_CH1/I2S2_MCK/U6_TX/SDIO_D6/DCMI_D0/LCD_HSYNC, 116 PC7/TIM3_CH2/TIM8_CH2/I2S3_MCK/U6_RX/SDIO_D7/DCMI_D1/LCD_G6, 117 PC8/TIM3_CH3/TIM8_CH3/U6_CK/SDIO_D0/DCMI_D2, 118 PC9/MCO2/TIM3_CH4/TIM8_CH4/I2C3_SDA/I2S_CKIN/SDIO_D1/DCMI_D3, 119 PA8/MCO1/TIM1_CH1/I2C3_SCL/U1_CK/OTG_FS_SOF/LCD_R6, 120 PA9/TIM1_CH2/I2C3_SMBA/U1_TX/DCMI_D0/OTG_FS_VBUS, 121 PA10/TIM1_CH3/U1_RX/OTG_FS_ID/DCMI_D1, 122 PA11/TIM1_CH4/U1_CTS/CAN1_RX/LCD_R4/OTG_FS_DM, 123 PA12/TIM1_ETR/U1_RTS/CAN1_TX/LCD_R5/OTG_FS_DP, 124 PA13/JTMS/SWDIO, 125 VCAP_2, 126 VSS, 127 VDD, 128 PH13/TIM8_CH1N/CAN1_TX/FMC_D21/LCD_G2, 129 PH14/TIM8_CH2N/FMC_D22/DCMI_D4/LCD_G3, 130 PH15/TIM8_CH3N/FMC_D23/DCMI_D11/LCD_G4, 131 PI0/TIM5_CH4/SPI2_NSS/I2S2_WS/FMC_D24/DCMI_D13/LCD_G5, 132 PI1/SPI2_SCK/I2S2_CK/FMC_D25/DCMI_D8/LCD_G6, 133 PI2/TIM8_CH4/SPI2_MISO/I2S2ext_SD/FMC_D26/DCMI_D9/LCD_G7, 134 PI3/TIM8_ETR/SPI2_MOSI/I2S2_SD/FMC_D27/DCMI_D10, 135 VSS, 136 VDD, 137 PA14/JTCK/SWDCLK, 138 PA15/JTDI/TIM2_CH1/TIM2_ETR/SPI1_NSS/SPI3_NSS/I2S3_WS, 139 PC10/SPI3_SCK/I2S3_CK/U3_TX/U4_TX/SDIO_D2/DCMI_D8/LCD_R2, 140 PC11/I2S3ext_SD/SPI3_MISO/U3_RX/U4_RX/SDIO_D3/DCMI_D4, 141 PC12/SPI3_MOSI/I2S3_SD/U3_CK/U5_TX/SDIO_CK/DCMI_D9, 142 PD0/CAN1_RX/FMC_D2, 143 PD1/CAN1_TX/FMC_D3, 144 PD2/TIM3_ETR/U5_RX/SDIO_CMD/DCMI_D11, 145 PD3/SPI2_SCK/I2S2_CK/U2_CTS/FMC_CLK/DCMI_D5/LCD_G7, 146 PD4/U2_RTS/FMC_NOE, 147 PD5/U2_TX/FMC_NWE, 148 VSS, 149 VDD, 150 PD6/SPI3_MOSI/I2S3_SD/SAI1_SD_A/U2_RX/FMC_NWAIT/DCMI_D10/LCD_B2, 151 PD7/U2_CK/FMC_NE1/FMC_NCE2, 152 PG9/U6_RX/FMC_NE2/FMC_NCE3, 153 PG10/LCD_G3/FMC_NE3/FMC_NCE4_1/DCMI_D2/LCD_B2, 154 PG11/ETH_MII_TX_EN/ETH_RMII_TX_EN/FMC_NCE4_2/DCMI_D3/LCD_B3, 155 PG12/SPI6_MISO/U6_RTS/FMC_NE4/LCD_B1/LCD_B4, 156 PG13/SPI6_SCK/U6_CTS/ETH_MII_TXD0/ETH_RMII_TXD0/FMC_A24, 157 PG14/SPI6_MOSI/U6_TX/ETH_MII_TXD1/ETH_RMII_TXD1/FMC_A25, 158 VSS, 159 VDD, 160 PG15/U6_CTS/FMC_SDNCAS/DCMI_D13, 161 PB3/JTDO/TIM2_CH2/SPI1_SCK/SPI3_SCK/I2S3_CK, 162 PB4/NJTRST/TIM3_CH1/SPI1_MISO/SPI3_MISO/I2S3ext_SD, 163 PB5/TIM3_CH2/I2C1_SMBA/SPI1_MOSI/SPI3_MOSI/I2S3_SD/CAN2_RX/OTG_HS_ULPI_D7/ETH_PPS_OUT/FMC_SDCKE1/DCMI_D10, 164 PB6/TIM4_CH1/I2C1_SCL/U1_TX/CAN2_TX/FMC_SDNE1/DCMI_D5, 165 PB7/TIM4_CH2/I2C1_SDA/U1_RX/FMC_NL/DCMI_VSYNC, 166 BOOT0, 167 PB8/TIM4_CH3/TIM10_CH1/I2C1_SCL/CAN1_RX/ETH_MII_TXD3/SDIO_D4/DCMI_D6/LCD_B6, 168 PB9/TIM4_CH4/TIM11_CH1/I2C1_SDA/SPI2_NSS/I2S2_WS/CAN1_TX/SDIO_D5/DCMI_D7/LCD_B7, 169 PE0/TIM4_ETR/U8_RX/FMC_NBL0/DCMI_D2, 170 PE1/U8_TX/FMC_NBL1/DCMI_D3, 171 PDR_ON, 172 VDD, 173 PI4/TIM8_BKIN/FMC_NBL2/DCMI_D5/LCD_B4, 174 PI5/TIM8_CH1/FMC_NBL3/DCMI_VSYNC/LCD_B5, 175 PI6/TIM8_CH2/FMC_D28/DCMI_D6/LCD_B6, 176 PI7/TIM8_CH3/FMC_D29/DCMI_D7/LCD_B7

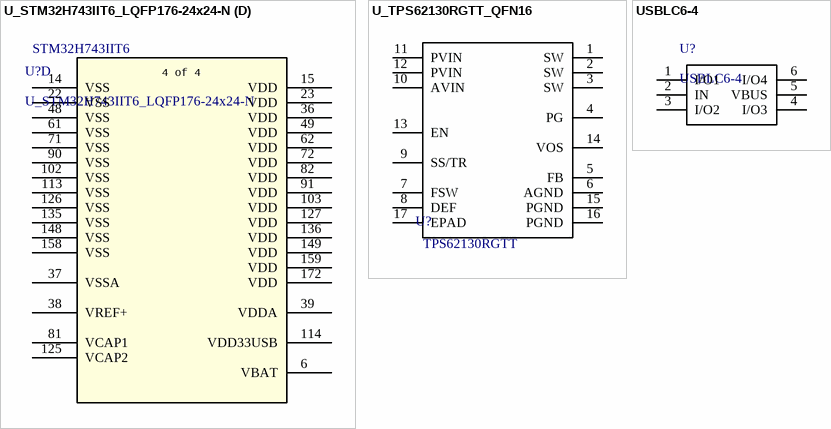
[diagram p4: symbols U_STM32H743IIT6_LQFP176-24x24-N to USBLC6-4]

## U_STM32H743IIT6_LQFP176-24x24-N
designator U?  value STM32H743IIT6
ARM Cortex-M7 32-bit MCU+FPU, 1027DMIPS, 2048 kB Flash, 1024 kB Internal RAM, 140 I/Os, 176-pin LQFP, -40 to 85 degC, Tray; ERP: 01.05.01.240
footprint LQFP176-24x24-N (176脚，体宽24x24mm，脚距0.5mm)
part A pins: 8 PC13, 9 PC14-OSC32_IN, 10 PC15-OSC32_OUT, 32 PC0, 33 PC1, 34 PC2_C, 35 PC3_C, 40 PA0-WKUP, 41 PA1, 42 PA2, 47 PA3, 50 PA4, 51 PA5, 52 PA6, 53 PA7, 54 PC4, 55 PC5, 56 PB0, 57 PB1, 58 PB2, 79 PB10, 80 PB11, 92 PB12, 93 PB13, 94 PB14, 95 PB15, 96 PD8, 97 PD9, 98 PD10, 99 PD11, 100 PD12, 101 PD13, 104 PD14, 105 PD15, 115 PC6, 116 PC7, 117 PC8, 118 PC9, 119 PA8, 120 PA9, 121 PA10, 122 PA11, 123 PA12, 124 PA13, 137 PA14, 138 PA15, 139 PC10, 140 PC11, 141 PC12, 142 PD0, 143 PD1, 144 PD2, 145 PD3, 146 PD4, 147 PD5, 150 PD6, 151 PD7, 161 PB3, 162 PB4, 163 PB5, 164 PB6, 165 PB7, 167 PB8, 168 PB9
part B pins: 1 PE2, 2 PE3, 3 PE4, 4 PE5, 5 PE6, 16 PF0, 17 PF1, 18 PF2, 19 PF3, 20 PF4, 21 PF5, 24 PF6, 25 PF7, 26 PF8, 27 PF9, 28 PF10, 29 PH0-OSC_IN, 30 PH1-OSC_OUT, 43 PH2, 44 PH3, 45 PH4, 46 PH5, 59 PF11, 60 PF12, 63 PF13, 64 PF14, 65 PF15, 66 PG0, 67 PG1, 68 PE7, 69 PE8, 70 PE9, 73 PE10, 74 PE11, 75 PE12, 76 PE13, 77 PE14, 78 PE15, 83 PH6, 84 PH7, 85 PH8, 86 PH9, 87 PH10, 88 PH11, 89 PH12, 106 PG2, 107 PG3, 108 PG4, 109 PG5, 110 PG6, 111 PG7, 112 PG8, 128 PH13, 129 PH14, 130 PH15, 152 PG9, 153 PG10, 154 PG11, 155 PG12, 156 PG13, 157 PG14, 160 PG15, 169 PE0, 170 PE1
part C pins: 7 PI8, 11 PI9, 12 PI10, 13 PI11, 31 NRST, 131 PI0, 132 PI1, 133 PI2, 134 PI3, 166 BOOT0 (in), 171 PDR_ON, 173 PI4, 174 PI5, 175 PI6, 176 PI7
part D pins: 6 VBAT (power), 14 VSS (power), 15 VDD (power), 22 VSS (power), 23 VDD (power), 36 VDD (power), 37 VSSA (power), 38 VREF+ (power), 39 VDDA (power), 48 VSS (power), 49 VDD (power), 61 VSS (power), 62 VDD (power), 71 VSS (power), 72 VDD (power), 81 VCAP1 (power), 82 VDD (power), 90 VSS (power), 91 VDD (power), 102 VSS (power), 103 VDD (power), 113 VSS (power), 114 VDD33USB (power), 125 VCAP2 (power), 126 VSS (power), 127 VDD (power), 135 VSS (power), 136 VDD (power), 148 VSS (power), 149 VDD (power), 158 VSS (power), 159 VDD (power), 172 VDD (power)
part A text: 1 of 4
part B text: 2 of 4
part C text: 3 of 4
part D text: 4 of 4

## U_TPS62130RGTT_QFN16
designator U?  value TPS62130RGTT  (hidden comment: U_TPS62130RGTT_QFN16)
TPS6213x 3-V to17-V, 3-A Step-Down Converter In 3-mm × 3-mm QFN Package; ERP: *
footprint QFN16-3X3-EP
pins: 1 SW, 2 SW, 3 SW, 4 PG, 5 FB, 6 AGND, 7 FSW, 8 DEF, 9 SS/TR, 10 AVIN, 11 PVIN, 12 PVIN, 13 EN, 14 VOS, 15 PGND, 16 PGND, 17 EPAD

## USBLC6-4
designator U?
Very low capacitance ESD protection
footprint SOT23-6N
pins: 1 I/O1, 2 IN, 3 I/O2, 4 I/O3, 5 VBUS, 6 I/O4